# EAGLE library part BQ24392 (library m_ic-comm)
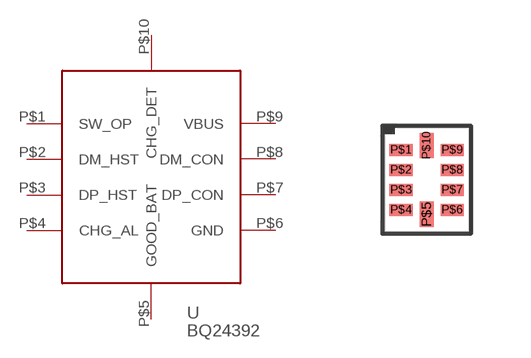
[diagram p10: symbol with the pads of UQFN-10; footprint UQFN-10]

Designator prefix -

## BQ24392 (MANUF: TI; PARTNUM: BQ24392RSER)  [UQFN-10]
P$1  SW_OP
P$2  DM_HST
P$3  DP_HST
P$4  CHG_AL
P$5  GOOD_BAT
P$6  GND
P$7  DP_CON
P$8  DM_CON
P$9  VBUS
P$10  CHG_DET

## Footprint UQFN-10 (pad centres in mm)
smd 0.58 x 0.3: P$1 -0.64,0.75; P$2 -0.64,0.25; P$3 -0.64,-0.25; P$4 -0.64,-0.75; P$6 0.64,-0.75; P$7 0.64,-0.25; P$8 0.64,0.25; P$9 0.64,0.75
smd 0.35 x 0.63: P$5 0,-0.86; P$10 0,0.86